# Altium footprint library IC-Standard.PcbLib: 6 footprints
Each footprint in its own frame and in the unit in brackets; x right, y up, seen from the top. Pads: shape width x height; smd on the part's side, far side on the other; paste and mask are expansions set on the pad; w line width, h text height; cw(c..) or ccw(c..) is an arc to the next point about the centre after c.
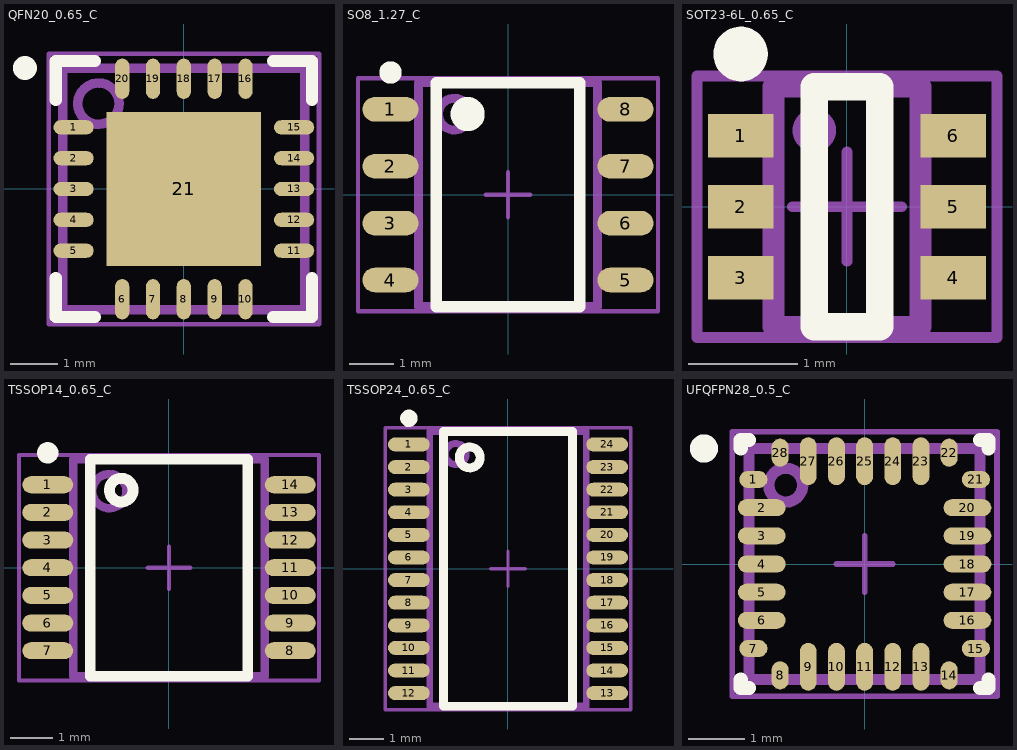
[diagram p0: the footprints below, top view; thin cyan lines are the x and y axes]

## QFN20_0.65_C [mm] "QFN, 20-Leads, Body 5.00x5.00mm, Pitch 0.65mm, Thermal Pad 3.25x3.25mm, IPC High Density"
height 1
pads (21):
  oval 0.85x0.3 smd: 1(-2.325,1.3) 2(-2.325,0.65) 3(-2.325,0) 4(-2.325,-0.65) 5(-2.325,-1.3) 11(2.325,-1.3) 12(2.325,-0.65) 13(2.325,0) 14(2.325,0.65) 15(2.325,1.3)
  oval 0.3x0.85 smd: 6(-1.3,-2.325) 7(-0.65,-2.325) 8(0,-2.325) 9(0.65,-2.325) 10(1.3,-2.325) 16(1.3,2.325) 17(0.65,2.325) 18(0,2.325) 19(-0.65,2.325) 20(-1.3,2.325)
  rect 3.25x3.25 smd: 21(0,0)
Top Overlay:
  circle w0.254: c-3.35,2.55 r0.125
  lines w0.254: -2.7,-1.877 -2.7,-2.7 -1.877,-2.7 ; -2.7,1.877 -2.7,2.7 -1.877,2.7 ; 1.877,-2.7 2.7,-2.7 2.7,-1.877 ; 1.877,2.7 2.7,2.7 2.7,1.877
Top Assembly:
  circle w0.2: c-1.8,1.8 r0.435
  lines w0.2: -2.55,-2.55 -2.55,2.55 2.55,2.55 2.55,-2.55 -2.55,-2.55
  text ".Designator" at -1.4,-0.467 h1
Top Courtyard (Mech15):
  lines w0.1: -0.5,0 0.5,0 ; 0,-0.5 0,0.5 ; -2.85,-2.85 -2.85,2.85 2.85,2.85 2.85,-2.85 -2.85,-2.85
3D body: height 1, standoff 0.05, extent -2.55,-2.55 2.55,2.55

## SO8_1.27_C [mm] "SOIC, 8-Leads, Body 4,90x3,90mm, Pitch 1,27mm, IPC High Density"
height 1.75
pads (8):
  oval 1.25x0.55 smd: 1(-2.625,1.905) 2(-2.625,0.635) 3(-2.625,-0.635) 4(-2.625,-1.905) 5(2.625,-1.905) 6(2.625,-0.635) 7(2.625,0.635) 8(2.625,1.905)
Top Overlay:
  circle w0.25: c-2.625,2.73 r0.125
  circle w0.6: c-0.9,1.8 r0.08
  lines w0.254: -1.6,-2.5 -1.6,2.5 1.6,2.5 1.6,-2.5 -1.6,-2.5
Top Assembly:
  circle w0.2: c-1.2,1.8 r0.354
  lines w0.2: -2,-2.5 -2,2.5 2,2.5 2,-2.5 -2,-2.5
Top Designator:
  text ".Designator" at -1,-0.442 h1.8
Top Courtyard (Mech15):
  lines w0.1: -0.5,0 0.5,0 ; 0,-0.5 0,0.5 ; -3.35,-2.6 -3.35,2.6 3.35,2.6 3.35,-2.6 -3.35,-2.6
3D body: height 1.75, standoff 0.1, extent -2,-2.5 2,2.5

## SOT23-6L_0.65_C [mm] "SOT23, 6-Leads, Body 2.00x2.10mm, Pitch 0.65mm, IPC High Density"
height 1.1
pads (6):
  rect 0.6x0.4 smd: 1(-0.975,0.65) 2(-0.975,0) 3(-0.975,-0.65) 4(0.975,-0.65) 5(0.975,0) 6(0.975,0.65)
Top Overlay:
  circle w0.25: c-0.975,1.4 r0.125
  lines w0.254: -0.3,-1.1 0.3,-1.1 0.3,1.1 -0.3,1.1 -0.3,-1.1
Top Assembly:
  circle w0.2: c-0.3,0.7 r0.1
  lines w0.2: -0.675,-1.1 -0.675,1.1 0.675,1.1 0.675,-1.1 -0.675,-1.1
Top Designator:
  text ".Designator" at -0.646,1.521 h0.8
Top Courtyard (Mech15):
  lines w0.1: -0.5,0 0.5,0 ; 0,-0.5 0,0.5 ; -1.375,-1.2 -1.375,1.2 1.375,1.2 1.375,-1.2 -1.375,-1.2
3D body: height 1.1, standoff 0.1, extent -0.675,-1.1 0.675,1.1

## TSSOP14_0.65_C [mm] "TSOP, 14-Leads, Body 5.00x4.40mm, Pitch 0.65mm, IPC High Density"
height 1.2
pads (14):
  oval 1.2x0.4 smd: 1(-2.85,1.95) 2(-2.85,1.3) 3(-2.85,0.65) 4(-2.85,0) 5(-2.85,-0.65) 6(-2.85,-1.3) 7(-2.85,-1.95) 8(2.85,-1.95) 9(2.85,-1.3) 10(2.85,-0.65) 11(2.85,0) 12(2.85,0.65) 13(2.85,1.3) 14(2.85,1.95)
Top Overlay:
  circle w0.25: c-2.85,2.7 r0.125
  circle w0.254: c-1.123,1.823 r0.278
  lines w0.254: -1.85,-2.55 -1.85,2.55 1.85,2.55 1.85,-2.55 -1.85,-2.55
Top Assembly:
  circle w0.2: c-1.4,1.8 r0.4
  lines w0.2: -2.25,-2.55 -2.25,2.55 2.25,2.55 2.25,-2.55 -2.25,-2.55
Top Designator:
  text ".Designator" at -1.324,-0.483 h1
Top Courtyard (Mech15):
  lines w0.1: -0.5,0 0.5,0 ; 0,-0.5 0,0.5 ; -3.525,-2.65 -3.525,2.65 3.525,2.65 3.525,-2.65 -3.525,-2.65
3D body: height 1.2, standoff 0.05, extent -2.25,-2.55 2.25,2.55

## TSSOP24_0.65_C [mm] "TSOP, 24-Leads, Body 7.80x4.40mm, Pitch 0.65mm, IPC High Density"
height 1.2
pads (24):
  oval 1.2x0.4 smd: 1(-2.85,3.575) 2(-2.85,2.925) 3(-2.85,2.275) 4(-2.85,1.625) 5(-2.85,0.975) 6(-2.85,0.325) 7(-2.85,-0.325) 8(-2.85,-0.975) 9(-2.85,-1.625) 10(-2.85,-2.275) 11(-2.85,-2.925) 12(-2.85,-3.575) 13(2.85,-3.575) 14(2.85,-2.925) 15(2.85,-2.275) 16(2.85,-1.625) 17(2.85,-0.975) 18(2.85,-0.325) 19(2.85,0.325) 20(2.85,0.975) 21(2.85,1.625) 22(2.85,2.275) 23(2.85,2.925) 24(2.85,3.575)
Top Overlay:
  circle w0.25: c-2.85,4.325 r0.125
  circle w0.254: c-1.1,3.2 r0.3
  lines w0.254: -1.85,-3.95 -1.85,3.95 1.85,3.95 1.85,-3.95 -1.85,-3.95
Top Assembly:
  circle w0.2: c-1.5,3.3 r0.3
  lines w0.2: -2.25,-3.95 -2.25,3.95 2.25,3.95 2.25,-3.95 -2.25,-3.95
Top Designator:
  text ".Designator" at -1.146,-0.279 h0.8
Top Courtyard (Mech15):
  lines w0.1: -0.5,0 0.5,0 ; 0,-0.5 0,0.5 ; -3.525,-4.05 -3.525,4.05 3.525,4.05 3.525,-4.05 -3.525,-4.05
3D body: height 1.2, standoff 0.05, extent -2.25,-3.95 2.25,3.95

## UFQFPN28_0.5_C [mm] "QFN, 28-Leads, Body 4.00x4.00mm, Pitch 0.50mm, IPC High Density"
height 0.6
pads (28):
  oval 0.5x0.3 smd: 1(-1.975,1.5) 7(-1.975,-1.5) 15(1.975,-1.5) 21(1.975,1.5)
  oval 0.85x0.3 smd: 2(-1.825,1) 3(-1.825,0.5) 4(-1.825,0) 5(-1.825,-0.5) 6(-1.825,-1) 16(1.825,-1) 17(1.825,-0.5) 18(1.825,0) 19(1.825,0.5) 20(1.825,1)
  oval 0.3x0.5 smd: 8(-1.5,-1.975) 14(1.5,-1.975) 22(1.5,1.975) 28(-1.5,1.975)
  oval 0.3x0.85 smd: 9(-1,-1.825) 10(-0.5,-1.825) 11(0,-1.825) 12(0.5,-1.825) 13(1,-1.825) 23(1,1.825) 24(0.5,1.825) 25(0,1.825) 26(-0.5,1.825) 27(-1,1.825)
Top Overlay:
  circle w0.25: c-2.85,2.05 r0.125
  lines w0.254: -2.2,-2.052 -2.2,-2.2 -2.052,-2.2 ; -2.2,2.052 -2.2,2.2 -2.052,2.2 ; 2.052,-2.2 2.2,-2.2 2.2,-2.052 ; 2.052,2.2 2.2,2.2 2.2,2.052
Top Assembly:
  circle w0.2: c-1.4,1.4 r0.3
  lines w0.2: -2.05,-2.05 -2.05,2.05 2.05,2.05 2.05,-2.05 -2.05,-2.05
Top Designator:
  text ".Designator" at -1.146,-0.413 h1
Top Courtyard (Mech15):
  lines w0.1: -0.5,0 0.5,0 ; 0,-0.5 0,0.5 ; -2.35,-2.35 -2.35,2.35 2.35,2.35 2.35,-2.35 -2.35,-2.35
3D body: height 0.6, standoff 0.05, extent -2.05,-2.05 2.05,2.05